# Altium integrated library TI Amplifiers and Linear Operational Amplifier Precision Amplifier Part Two.IntLib: 2300 symbols (part 50 of 81)
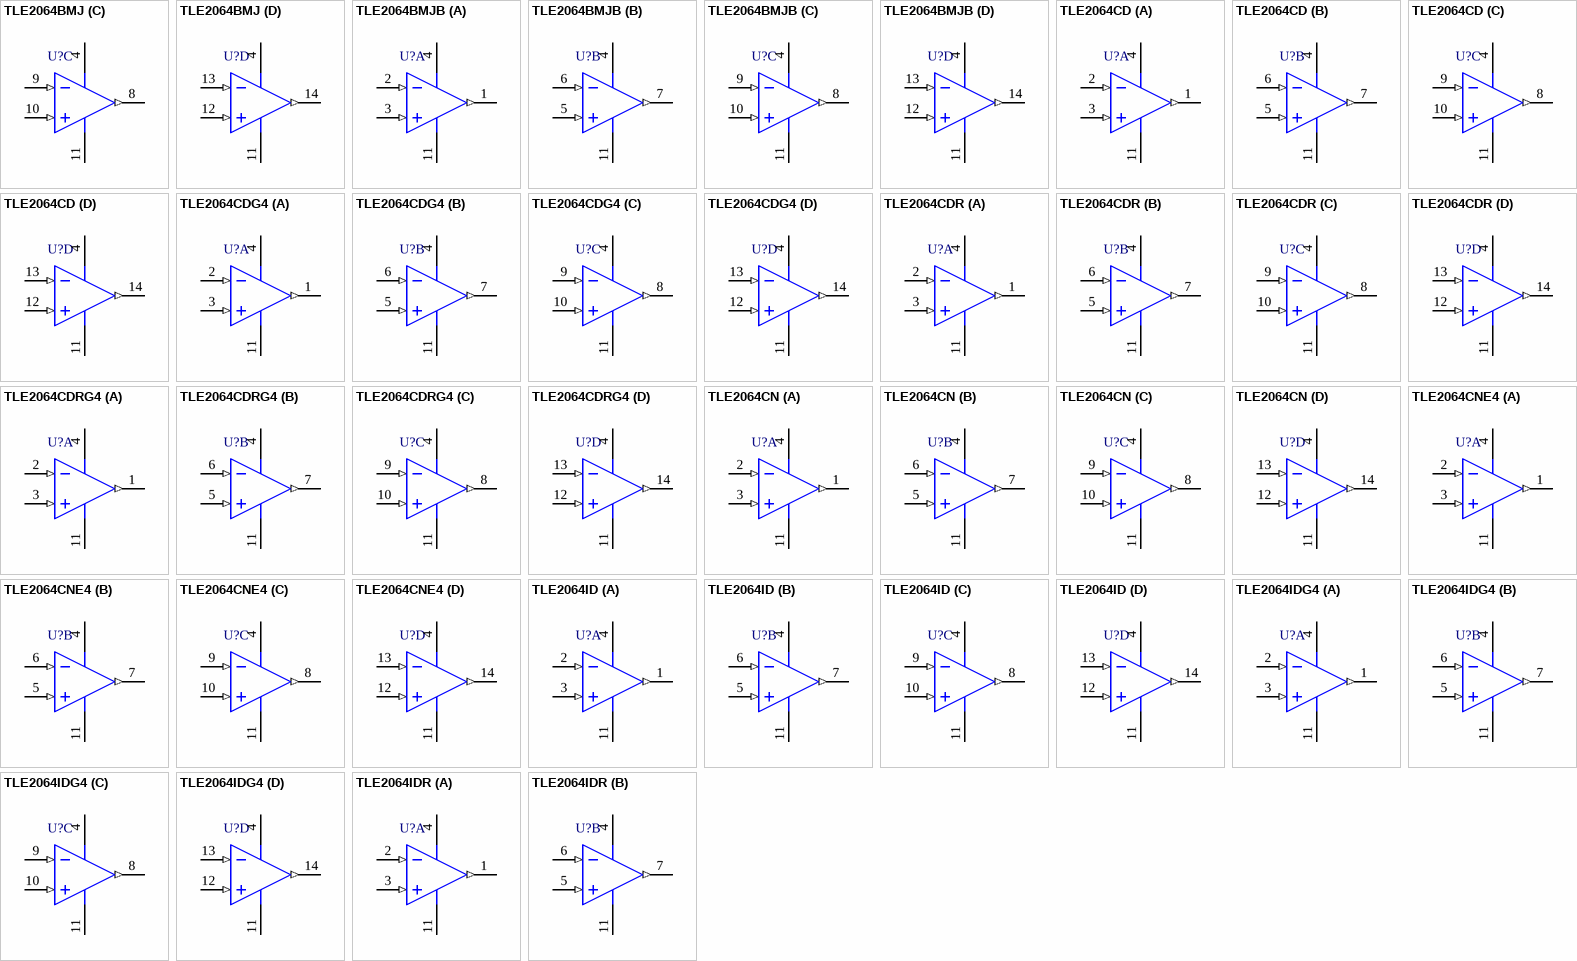
[diagram p185: symbols TLE2064BMJ to TLE2064IDR]

## TLE2064BMJB
designator U?
JFET-Input Low Power High Drive Quad Operational Amplifier, 7 to 36 V, -55 to 125 degC, 14-pin DIP (J14); Manufacturer: Texas Instruments; PartNumber: TLE2064BMJB; CMRR(Min)(dB): 65; GBW(Typ)(MHz): 1.8; IIB(Max)(pA): 30000; Iq per channel(Max)(mA): 0.325; Number of Channels: 4; Offset Drift(Typ)(uV/C): 6; Packing: TUBE; Rating: Military; Slew Rate(Typ)(V/us): 3.4; Sub Family: High Supply Voltage Amplifier (>=30V), Low Power Amp (<=500uA), Precision Amplifier; Total Supply Voltage(Max)(+5V is 5, +/-5V is 10): 36; Total Supply Voltage(Min)(+5V is 5, +/-5V is 10): 7; Vio (25C)(Max)(mV): 3.5; DatasheetVersion: SLOS193B; PackageVersion: 4040083/F, 03/2003; PackageReference: J14; PackageDescription: 14-Pin Ceramic, Glass In-Line, Row Spacing 7.62 mm, Pitch 2.54 mm; Mounting Technology: Through Hole; ComponentLink1Description: Manufacturer URL; ComponentLink1URL: http://www.ti.com/; ComponentLink2Description: Datasheet; ComponentLink2URL: http://www.ti.com/lit/ds/symlink/tle2064bm.pdf; ComponentLink3Description: Package Specification; ComponentLink3URL: http://www.ti.com/litv/pdf/mcer002d
footprint TI-J14 (DIP, 14-Leads, Body 19.94x6.92mm, Row Spacing 7.62 mm, Pitch 2.54mm)
pins on every part: 4 VCC+ (power), 11 VCC- (power)
part A pins: 1 OUT1 (out), 2 IN1- (in), 3 IN1+ (in)
part B pins: 5 IN2+ (in), 6 IN2- (in), 7 OUT2 (out)
part C pins: 8 OUT3 (out), 9 IN3- (in), 10 IN3+ (in)
part D pins: 12 IN4+ (in), 13 IN4- (in), 14 OUT4 (out)

## TLE2064CD
designator U?
Quad JFET-Input High-Output-Drive uPower Operational Amplifier, 7 to 36 V, 0 to 70 degC, 14-pin SOIC (D14), Green (RoHS & no Sb/Br); Manufacturer: Texas Instruments; PartNumber: TLE2064CD; CMRR(Min)(dB): 65; GBW(Typ)(MHz): 1.8; IIB(Max)(pA): 2000; Iq per channel(Max)(mA): 1.3; Number of Channels: 4; Offset Drift(Typ)(uV/C): 6; Packing: TUBE; Rating: Catalog; Slew Rate(Typ)(V/us): 3.4; Sub Family: High Supply Voltage Amplifier (>=30V), Low Power Amp (<=500uA), Precision Amplifier; Total Supply Voltage(Max)(+5V is 5, +/-5V is 10): 36; Total Supply Voltage(Min)(+5V is 5, +/-5V is 10): 7; DatasheetVersion: SLOS193B; PackageVersion: 4040047-5/M, 06/2011; PackageReference: D14; PackageDescription: 14-Pin Plastic Small Outline, Body 8.65 x 3.9 mm, Pitch 1.27 mm; Supplier 1: Digi-Key; Supplier Part Number 1: 296-10409-5-ND; Supplier 2: Farnell; Supplier Part Number 2: 1909800; Supplier 3: Newark; Supplier Part Number 3: 92F8608; Supplier 4: Mouser; Supplier Part Number 4: 595-TLE2064CD; Eco-Plan: Green (RoHS & no Sb/Br); Vio (25C)(Max)(mV): 7; Mounting Technology: Surface Mount; Code_JEDEC: MS-012; ComponentLink1Description: Manufacturer URL; ComponentLink1URL: http://www.ti.com/; ComponentLink2Description: Datasheet; ComponentLink2URL: http://www.ti.com/lit/ds/symlink/tle2064.pdf; ComponentLink3Description: Package Specification; ComponentLink3URL: http://www.ti.com/lit/ml/mpds177g/mpds177g.pdf
footprint TI-D14_N (SOIC, 14-Leads, Body 8.65x3.9mm, Pitch 1.27mm, IPC Medium Density)
footprint TI-D14_L (SOIC, 14-Leads, Body 8.65x3.9mm, Pitch 1.27mm, IPC High Density)
footprint TI-D14_M (SOIC, 14-Leads, Body 8.65x3.9mm, Pitch 1.27mm, IPC Low Density)
pins on every part: 4 VCC+ (power), 11 VCC- (power)
part A pins: 1 OUT1 (out), 2 IN1- (in), 3 IN1+ (in)
part B pins: 5 IN2+ (in), 6 IN2- (in), 7 OUT2 (out)
part C pins: 8 OUT3 (out), 9 IN3- (in), 10 IN3+ (in)
part D pins: 12 IN4+ (in), 13 IN4- (in), 14 OUT4 (out)

## TLE2064CDG4
designator U?
Quad JFET-Input High-Output-Drive uPower Operational Amplifier, 7 to 36 V, 0 to 70 degC, 14-pin SOIC (D14), Green (RoHS & no Sb/Br); Manufacturer: Texas Instruments; PartNumber: TLE2064CDG4; CMRR(Min)(dB): 65; GBW(Typ)(MHz): 1.8; IIB(Max)(pA): 2000; Iq per channel(Max)(mA): 1.3; Number of Channels: 4; Offset Drift(Typ)(uV/C): 6; Packing: TUBE; Rating: Catalog; Slew Rate(Typ)(V/us): 3.4; Sub Family: High Supply Voltage Amplifier (>=30V), Low Power Amp (<=500uA), Precision Amplifier; Total Supply Voltage(Max)(+5V is 5, +/-5V is 10): 36; Total Supply Voltage(Min)(+5V is 5, +/-5V is 10): 7; DatasheetVersion: SLOS193B; PackageVersion: 4040047-5/M, 06/2011; PackageReference: D14; PackageDescription: 14-Pin Plastic Small Outline, Body 8.65 x 3.9 mm, Pitch 1.27 mm; Supplier 1: Digi-Key; Supplier Part Number 1: TLE2064CDG4-ND; Supplier 2: Farnell; Supplier Part Number 2: 1234692; Supplier 3: Newark; Supplier Part Number 3: 13M3170; Supplier 4: Mouser; Supplier Part Number 4: 595-TLE2064CDG4; Eco-Plan: Green (RoHS & no Sb/Br); Vio (25C)(Max)(mV): 7; Mounting Technology: Surface Mount; Code_JEDEC: MS-012; ComponentLink1Description: Manufacturer URL; ComponentLink1URL: http://www.ti.com/; ComponentLink2Description: Datasheet; ComponentLink2URL: http://www.ti.com/lit/ds/symlink/tle2064.pdf; ComponentLink3Description: Package Specification; ComponentLink3URL: http://www.ti.com/lit/ml/mpds177g/mpds177g.pdf
footprint TI-D14_N (SOIC, 14-Leads, Body 8.65x3.9mm, Pitch 1.27mm, IPC Medium Density)
footprint TI-D14_L (SOIC, 14-Leads, Body 8.65x3.9mm, Pitch 1.27mm, IPC High Density)
footprint TI-D14_M (SOIC, 14-Leads, Body 8.65x3.9mm, Pitch 1.27mm, IPC Low Density)
pins on every part: 4 VCC+ (power), 11 VCC- (power)
part A pins: 1 OUT1 (out), 2 IN1- (in), 3 IN1+ (in)
part B pins: 5 IN2+ (in), 6 IN2- (in), 7 OUT2 (out)
part C pins: 8 OUT3 (out), 9 IN3- (in), 10 IN3+ (in)
part D pins: 12 IN4+ (in), 13 IN4- (in), 14 OUT4 (out)

## TLE2064CDR
designator U?
Quad JFET-Input High-Output-Drive uPower Operational Amplifier, 7 to 36 V, 0 to 70 degC, 14-pin SOIC (D14), Green (RoHS & no Sb/Br); Manufacturer: Texas Instruments; PartNumber: TLE2064CDR; CMRR(Min)(dB): 65; GBW(Typ)(MHz): 1.8; IIB(Max)(pA): 2000; Iq per channel(Max)(mA): 1.3; Number of Channels: 4; Offset Drift(Typ)(uV/C): 6; Packing: LARGE T&R; Rating: Catalog; Slew Rate(Typ)(V/us): 3.4; Sub Family: High Supply Voltage Amplifier (>=30V), Low Power Amp (<=500uA), Precision Amplifier; Total Supply Voltage(Max)(+5V is 5, +/-5V is 10): 36; Total Supply Voltage(Min)(+5V is 5, +/-5V is 10): 7; DatasheetVersion: SLOS193B; PackageVersion: 4040047-5/M, 06/2011; PackageReference: D14; PackageDescription: 14-Pin Plastic Small Outline, Body 8.65 x 3.9 mm, Pitch 1.27 mm; Supplier 1: Digi-Key; Supplier Part Number 1: TLE2064CDR-ND; Supplier 2: Mouser; Supplier Part Number 2: 595-TLE2064CDR; Eco-Plan: Green (RoHS & no Sb/Br); Vio (25C)(Max)(mV): 7; Mounting Technology: Surface Mount; Code_JEDEC: MS-012; ComponentLink1Description: Manufacturer URL; ComponentLink1URL: http://www.ti.com/; ComponentLink2Description: Datasheet; ComponentLink2URL: http://www.ti.com/lit/ds/symlink/tle2064.pdf; ComponentLink3Description: Package Specification; ComponentLink3URL: http://www.ti.com/lit/ml/mpds177g/mpds177g.pdf
footprint TI-D14_N (SOIC, 14-Leads, Body 8.65x3.9mm, Pitch 1.27mm, IPC Medium Density)
footprint TI-D14_L (SOIC, 14-Leads, Body 8.65x3.9mm, Pitch 1.27mm, IPC High Density)
footprint TI-D14_M (SOIC, 14-Leads, Body 8.65x3.9mm, Pitch 1.27mm, IPC Low Density)
pins on every part: 4 VCC+ (power), 11 VCC- (power)
part A pins: 1 OUT1 (out), 2 IN1- (in), 3 IN1+ (in)
part B pins: 5 IN2+ (in), 6 IN2- (in), 7 OUT2 (out)
part C pins: 8 OUT3 (out), 9 IN3- (in), 10 IN3+ (in)
part D pins: 12 IN4+ (in), 13 IN4- (in), 14 OUT4 (out)

## TLE2064CDRG4
designator U?
Quad JFET-Input High-Output-Drive uPower Operational Amplifier, 7 to 36 V, 0 to 70 degC, 14-pin SOIC (D14), Green (RoHS & no Sb/Br); Manufacturer: Texas Instruments; PartNumber: TLE2064CDRG4; CMRR(Min)(dB): 65; GBW(Typ)(MHz): 1.8; IIB(Max)(pA): 2000; Iq per channel(Max)(mA): 1.3; Number of Channels: 4; Offset Drift(Typ)(uV/C): 6; Packing: LARGE T&R; Rating: Catalog; Slew Rate(Typ)(V/us): 3.4; Sub Family: High Supply Voltage Amplifier (>=30V), Low Power Amp (<=500uA), Precision Amplifier; Total Supply Voltage(Max)(+5V is 5, +/-5V is 10): 36; Total Supply Voltage(Min)(+5V is 5, +/-5V is 10): 7; DatasheetVersion: SLOS193B; PackageVersion: 4040047-5/M, 06/2011; PackageReference: D14; PackageDescription: 14-Pin Plastic Small Outline, Body 8.65 x 3.9 mm, Pitch 1.27 mm; Supplier 1: Digi-Key; Supplier Part Number 1: TLE2064CDRG4-ND; Supplier 2: Mouser; Supplier Part Number 2: 595-TLE2064CDRG4; Eco-Plan: Green (RoHS & no Sb/Br); Vio (25C)(Max)(mV): 7; Mounting Technology: Surface Mount; Code_JEDEC: MS-012; ComponentLink1Description: Manufacturer URL; ComponentLink1URL: http://www.ti.com/; ComponentLink2Description: Datasheet; ComponentLink2URL: http://www.ti.com/lit/ds/symlink/tle2064.pdf; ComponentLink3Description: Package Specification; ComponentLink3URL: http://www.ti.com/lit/ml/mpds177g/mpds177g.pdf
footprint TI-D14_N (SOIC, 14-Leads, Body 8.65x3.9mm, Pitch 1.27mm, IPC Medium Density)
footprint TI-D14_L (SOIC, 14-Leads, Body 8.65x3.9mm, Pitch 1.27mm, IPC High Density)
footprint TI-D14_M (SOIC, 14-Leads, Body 8.65x3.9mm, Pitch 1.27mm, IPC Low Density)
pins on every part: 4 VCC+ (power), 11 VCC- (power)
part A pins: 1 OUT1 (out), 2 IN1- (in), 3 IN1+ (in)
part B pins: 5 IN2+ (in), 6 IN2- (in), 7 OUT2 (out)
part C pins: 8 OUT3 (out), 9 IN3- (in), 10 IN3+ (in)
part D pins: 12 IN4+ (in), 13 IN4- (in), 14 OUT4 (out)

## TLE2064CN
designator U?
Quad JFET-Input High-Output-Drive uPower Operational Amplifier, 7 to 36 V, 0 to 70 degC, 14-pin DIP (N14), Pb-Free (RoHS); Manufacturer: Texas Instruments; PartNumber: TLE2064CN; CMRR(Min)(dB): 65; GBW(Typ)(MHz): 1.8; IIB(Max)(pA): 2000; Iq per channel(Max)(mA): 1.3; Number of Channels: 4; Offset Drift(Typ)(uV/C): 6; Packing: TUBE; Rating: Catalog; Slew Rate(Typ)(V/us): 3.4; Sub Family: High Supply Voltage Amplifier (>=30V), Low Power Amp (<=500uA), Precision Amplifier; Total Supply Voltage(Max)(+5V is 5, +/-5V is 10): 36; Total Supply Voltage(Min)(+5V is 5, +/-5V is 10): 7; DatasheetVersion: SLOS193B; PackageVersion: 4040049/E, 12/2002; PackageReference: N14; PackageDescription: 14-Pin Plastic In-Line, Body 19.305 x 6.35 mm, Pitch 2.54 mm; Supplier 1: Digi-Key; Supplier Part Number 1: 296-10410-5-ND; Supplier 2: Farnell; Supplier Part Number 2: 2387505; Supplier 3: Newark; Supplier Part Number 3: 08F9172; Supplier 4: Mouser; Supplier Part Number 4: 595-TLE2064CN; Eco-Plan: Pb-Free (RoHS); Vio (25C)(Max)(mV): 7; Mounting Technology: Through Hole; Code_JEDEC: MS-001; ComponentLink1Description: Manufacturer URL; ComponentLink1URL: http://www.ti.com/; ComponentLink2Description: Datasheet; ComponentLink2URL: http://www.ti.com/lit/ds/symlink/tle2064.pdf; ComponentLink3Description: Package Specification; ComponentLink3URL: http://www.ti.com/lit/ml/mpdi002c/mpdi002c.pdf
footprint TI-N14 (DIP, 14-Leads, Body 19.305x6.35 mm, Pitch 2.54 mm)
pins on every part: 4 VCC+ (power), 11 VCC- (power)
part A pins: 1 OUT1 (out), 2 IN1- (in), 3 IN1+ (in)
part B pins: 5 IN2+ (in), 6 IN2- (in), 7 OUT2 (out)
part C pins: 8 OUT3 (out), 9 IN3- (in), 10 IN3+ (in)
part D pins: 12 IN4+ (in), 13 IN4- (in), 14 OUT4 (out)

## TLE2064CNE4
designator U?
Quad JFET-Input High-Output-Drive uPower Operational Amplifier, 7 to 36 V, 0 to 70 degC, 14-pin DIP (N14), Pb-Free (RoHS); Manufacturer: Texas Instruments; PartNumber: TLE2064CNE4; CMRR(Min)(dB): 65; GBW(Typ)(MHz): 1.8; IIB(Max)(pA): 2000; Iq per channel(Max)(mA): 1.3; Number of Channels: 4; Offset Drift(Typ)(uV/C): 6; Packing: TUBE; Rating: Catalog; Slew Rate(Typ)(V/us): 3.4; Sub Family: High Supply Voltage Amplifier (>=30V), Low Power Amp (<=500uA), Precision Amplifier; Total Supply Voltage(Max)(+5V is 5, +/-5V is 10): 36; Total Supply Voltage(Min)(+5V is 5, +/-5V is 10): 7; DatasheetVersion: SLOS193B; PackageVersion: 4040049/E, 12/2002; PackageReference: N14; PackageDescription: 14-Pin Plastic In-Line, Body 19.305 x 6.35 mm, Pitch 2.54 mm; Supplier 1: Digi-Key; Supplier Part Number 1: TLE2064CNE4-ND; Supplier 2: Farnell; Supplier Part Number 2: 1234712; Supplier 3: Newark; Supplier Part Number 3: 13M3171; Supplier 4: Mouser; Supplier Part Number 4: 595-TLE2064CNE4; Eco-Plan: Pb-Free (RoHS); Vio (25C)(Max)(mV): 7; Mounting Technology: Through Hole; Code_JEDEC: MS-001; ComponentLink1Description: Manufacturer URL; ComponentLink1URL: http://www.ti.com/; ComponentLink2Description: Datasheet; ComponentLink2URL: http://www.ti.com/lit/ds/symlink/tle2064.pdf; ComponentLink3Description: Package Specification; ComponentLink3URL: http://www.ti.com/lit/ml/mpdi002c/mpdi002c.pdf
footprint TI-N14 (DIP, 14-Leads, Body 19.305x6.35 mm, Pitch 2.54 mm)
pins on every part: 4 VCC+ (power), 11 VCC- (power)
part A pins: 1 OUT1 (out), 2 IN1- (in), 3 IN1+ (in)
part B pins: 5 IN2+ (in), 6 IN2- (in), 7 OUT2 (out)
part C pins: 8 OUT3 (out), 9 IN3- (in), 10 IN3+ (in)
part D pins: 12 IN4+ (in), 13 IN4- (in), 14 OUT4 (out)

## TLE2064ID
designator U?
Quad JFET-Input High-Output-Drive uPower Operational Amplifier, 7 to 36 V, -40 to 85 degC, 14-pin SOIC (D14), Green (RoHS & no Sb/Br); Manufacturer: Texas Instruments; PartNumber: TLE2064ID; CMRR(Min)(dB): 65; GBW(Typ)(MHz): 1.8; IIB(Max)(pA): 4000; Iq per channel(Max)(mA): 1.3; Number of Channels: 4; Offset Drift(Typ)(uV/C): 6; Packing: TUBE; Rating: Catalog; Slew Rate(Typ)(V/us): 3.4; Sub Family: High Supply Voltage Amplifier (>=30V), Low Power Amp (<=500uA), Precision Amplifier; Total Supply Voltage(Max)(+5V is 5, +/-5V is 10): 36; Total Supply Voltage(Min)(+5V is 5, +/-5V is 10): 7; DatasheetVersion: SLOS193B; PackageVersion: 4040047-5/M, 06/2011; PackageReference: D14; PackageDescription: 14-Pin Plastic Small Outline, Body 8.65 x 3.9 mm, Pitch 1.27 mm; Supplier 1: Digi-Key; Supplier Part Number 1: 296-10411-5-ND; Supplier 2: Farnell; Supplier Part Number 2: 1105910; Supplier 3: Newark; Supplier Part Number 3: 67K1268; Supplier 4: Mouser; Supplier Part Number 4: 595-TLE2064ID; Eco-Plan: Green (RoHS & no Sb/Br); Vio (25C)(Max)(mV): 7; Mounting Technology: Surface Mount; Code_JEDEC: MS-012; ComponentLink1Description: Manufacturer URL; ComponentLink1URL: http://www.ti.com/; ComponentLink2Description: Datasheet; ComponentLink2URL: http://www.ti.com/lit/ds/symlink/tle2064.pdf; ComponentLink3Description: Package Specification; ComponentLink3URL: http://www.ti.com/lit/ml/mpds177g/mpds177g.pdf
footprint TI-D14_N (SOIC, 14-Leads, Body 8.65x3.9mm, Pitch 1.27mm, IPC Medium Density)
footprint TI-D14_L (SOIC, 14-Leads, Body 8.65x3.9mm, Pitch 1.27mm, IPC High Density)
footprint TI-D14_M (SOIC, 14-Leads, Body 8.65x3.9mm, Pitch 1.27mm, IPC Low Density)
pins on every part: 4 VCC+ (power), 11 VCC- (power)
part A pins: 1 OUT1 (out), 2 IN1- (in), 3 IN1+ (in)
part B pins: 5 IN2+ (in), 6 IN2- (in), 7 OUT2 (out)
part C pins: 8 OUT3 (out), 9 IN3- (in), 10 IN3+ (in)
part D pins: 12 IN4+ (in), 13 IN4- (in), 14 OUT4 (out)

## TLE2064IDG4
designator U?
Quad JFET-Input High-Output-Drive uPower Operational Amplifier, 7 to 36 V, -40 to 85 degC, 14-pin SOIC (D14), Green (RoHS & no Sb/Br); Manufacturer: Texas Instruments; PartNumber: TLE2064IDG4; CMRR(Min)(dB): 65; GBW(Typ)(MHz): 1.8; IIB(Max)(pA): 4000; Iq per channel(Max)(mA): 1.3; Number of Channels: 4; Offset Drift(Typ)(uV/C): 6; Packing: TUBE; Rating: Catalog; Slew Rate(Typ)(V/us): 3.4; Sub Family: High Supply Voltage Amplifier (>=30V), Low Power Amp (<=500uA), Precision Amplifier; Total Supply Voltage(Max)(+5V is 5, +/-5V is 10): 36; Total Supply Voltage(Min)(+5V is 5, +/-5V is 10): 7; DatasheetVersion: SLOS193B; PackageVersion: 4040047-5/M, 06/2011; PackageReference: D14; PackageDescription: 14-Pin Plastic Small Outline, Body 8.65 x 3.9 mm, Pitch 1.27 mm; Supplier 1: Digi-Key; Supplier Part Number 1: TLE2064IDG4-ND; Supplier 2: Mouser; Supplier Part Number 2: 595-TLE2064IDG4; Eco-Plan: Green (RoHS & no Sb/Br); Vio (25C)(Max)(mV): 7; Mounting Technology: Surface Mount; Code_JEDEC: MS-012; ComponentLink1Description: Manufacturer URL; ComponentLink1URL: http://www.ti.com/; ComponentLink2Description: Datasheet; ComponentLink2URL: http://www.ti.com/lit/ds/symlink/tle2064.pdf; ComponentLink3Description: Package Specification; ComponentLink3URL: http://www.ti.com/lit/ml/mpds177g/mpds177g.pdf
footprint TI-D14_N (SOIC, 14-Leads, Body 8.65x3.9mm, Pitch 1.27mm, IPC Medium Density)
footprint TI-D14_L (SOIC, 14-Leads, Body 8.65x3.9mm, Pitch 1.27mm, IPC High Density)
footprint TI-D14_M (SOIC, 14-Leads, Body 8.65x3.9mm, Pitch 1.27mm, IPC Low Density)
pins on every part: 4 VCC+ (power), 11 VCC- (power)
part A pins: 1 OUT1 (out), 2 IN1- (in), 3 IN1+ (in)
part B pins: 5 IN2+ (in), 6 IN2- (in), 7 OUT2 (out)
part C pins: 8 OUT3 (out), 9 IN3- (in), 10 IN3+ (in)
part D pins: 12 IN4+ (in), 13 IN4- (in), 14 OUT4 (out)

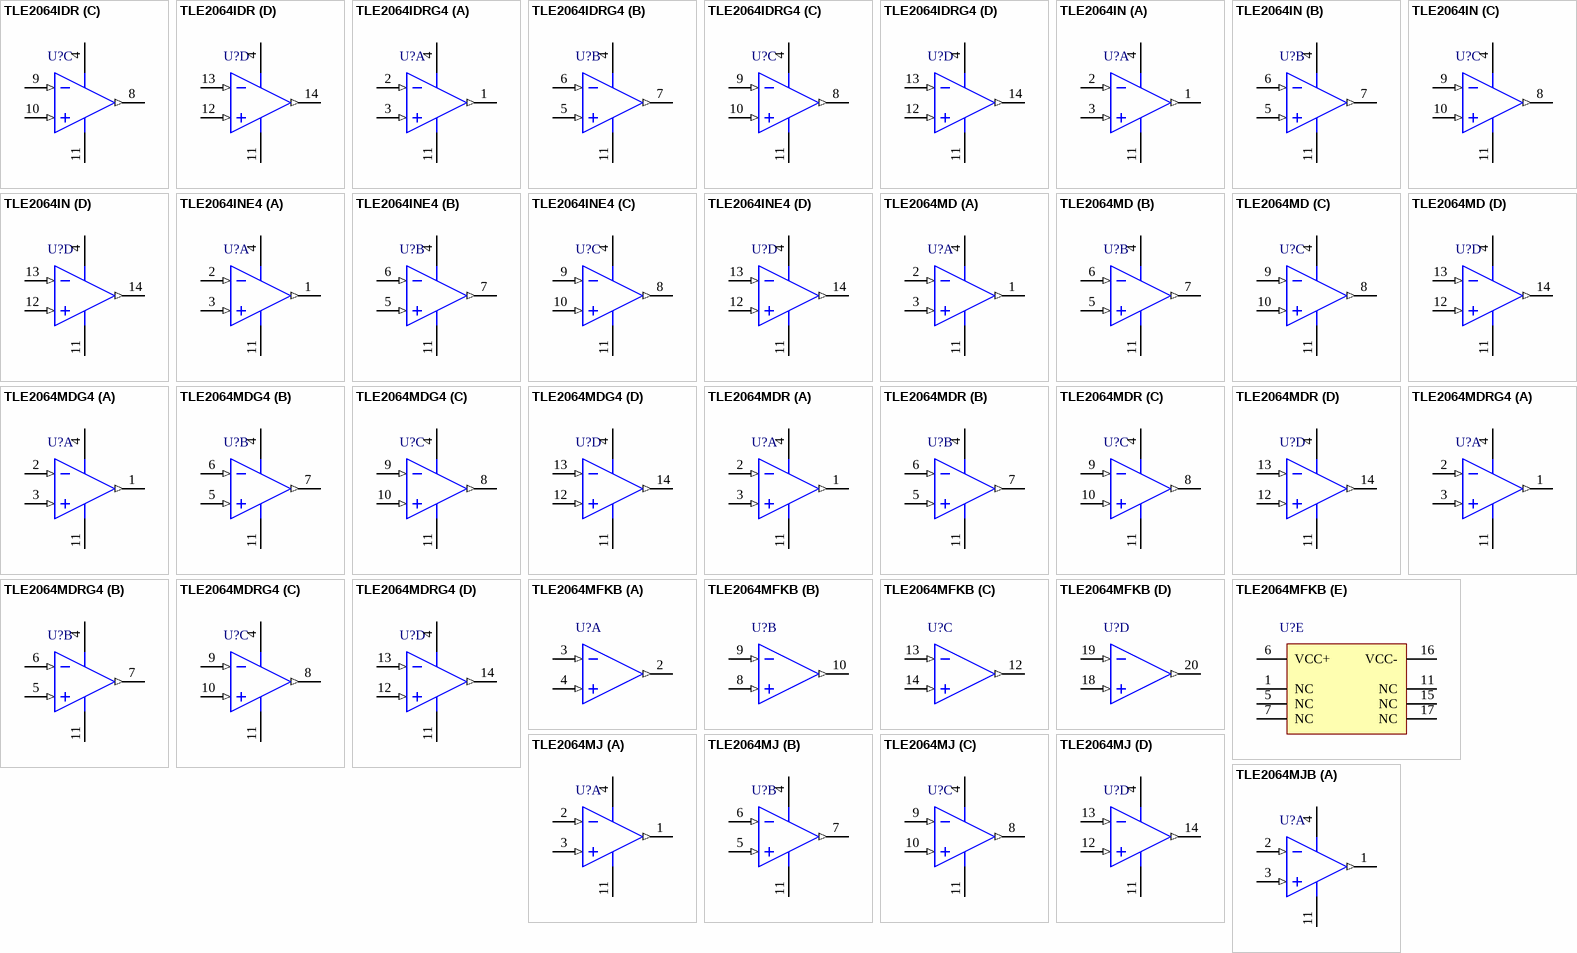
[diagram p85: symbols TLE2064IDR to TLE2064MJB]

## TLE2064IDR
designator U?
Quad JFET-Input High-Output-Drive uPower Operational Amplifier, 7 to 36 V, -40 to 85 degC, 14-pin SOIC (D14), Green (RoHS & no Sb/Br); Manufacturer: Texas Instruments; PartNumber: TLE2064IDR; CMRR(Min)(dB): 65; GBW(Typ)(MHz): 1.8; IIB(Max)(pA): 4000; Iq per channel(Max)(mA): 1.3; Number of Channels: 4; Offset Drift(Typ)(uV/C): 6; Packing: LARGE T&R; Rating: Catalog; Slew Rate(Typ)(V/us): 3.4; Sub Family: High Supply Voltage Amplifier (>=30V), Low Power Amp (<=500uA), Precision Amplifier; Total Supply Voltage(Max)(+5V is 5, +/-5V is 10): 36; Total Supply Voltage(Min)(+5V is 5, +/-5V is 10): 7; DatasheetVersion: SLOS193B; PackageVersion: 4040047-5/M, 06/2011; PackageReference: D14; PackageDescription: 14-Pin Plastic Small Outline, Body 8.65 x 3.9 mm, Pitch 1.27 mm; Supplier 1: Digi-Key; Supplier Part Number 1: TLE2064IDR-ND; Supplier 2: Newark; Supplier Part Number 2: 76C7636; Supplier 3: Mouser; Supplier Part Number 3: 595-TLE2064IDR; Eco-Plan: Green (RoHS & no Sb/Br); Vio (25C)(Max)(mV): 7; Mounting Technology: Surface Mount; Code_JEDEC: MS-012; ComponentLink1Description: Manufacturer URL; ComponentLink1URL: http://www.ti.com/; ComponentLink2Description: Datasheet; ComponentLink2URL: http://www.ti.com/lit/ds/symlink/tle2064.pdf; ComponentLink3Description: Package Specification; ComponentLink3URL: http://www.ti.com/lit/ml/mpds177g/mpds177g.pdf
footprint TI-D14_N (SOIC, 14-Leads, Body 8.65x3.9mm, Pitch 1.27mm, IPC Medium Density)
footprint TI-D14_L (SOIC, 14-Leads, Body 8.65x3.9mm, Pitch 1.27mm, IPC High Density)
footprint TI-D14_M (SOIC, 14-Leads, Body 8.65x3.9mm, Pitch 1.27mm, IPC Low Density)
pins on every part: 4 VCC+ (power), 11 VCC- (power)
part A pins: 1 OUT1 (out), 2 IN1- (in), 3 IN1+ (in)
part B pins: 5 IN2+ (in), 6 IN2- (in), 7 OUT2 (out)
part C pins: 8 OUT3 (out), 9 IN3- (in), 10 IN3+ (in)
part D pins: 12 IN4+ (in), 13 IN4- (in), 14 OUT4 (out)

## TLE2064IDRG4
designator U?
Quad JFET-Input High-Output-Drive uPower Operational Amplifier, 7 to 36 V, -40 to 85 degC, 14-pin SOIC (D14), Green (RoHS & no Sb/Br); Manufacturer: Texas Instruments; PartNumber: TLE2064IDRG4; CMRR(Min)(dB): 65; GBW(Typ)(MHz): 1.8; IIB(Max)(pA): 4000; Iq per channel(Max)(mA): 1.3; Number of Channels: 4; Offset Drift(Typ)(uV/C): 6; Packing: LARGE T&R; Rating: Catalog; Slew Rate(Typ)(V/us): 3.4; Sub Family: High Supply Voltage Amplifier (>=30V), Low Power Amp (<=500uA), Precision Amplifier; Total Supply Voltage(Max)(+5V is 5, +/-5V is 10): 36; Total Supply Voltage(Min)(+5V is 5, +/-5V is 10): 7; DatasheetVersion: SLOS193B; PackageVersion: 4040047-5/M, 06/2011; PackageReference: D14; PackageDescription: 14-Pin Plastic Small Outline, Body 8.65 x 3.9 mm, Pitch 1.27 mm; Supplier 1: Digi-Key; Supplier Part Number 1: TLE2064IDRG4-ND; Supplier 2: Mouser; Supplier Part Number 2: 595-TLE2064IDRG4; Eco-Plan: Green (RoHS & no Sb/Br); Vio (25C)(Max)(mV): 7; Mounting Technology: Surface Mount; Code_JEDEC: MS-012; ComponentLink1Description: Manufacturer URL; ComponentLink1URL: http://www.ti.com/; ComponentLink2Description: Datasheet; ComponentLink2URL: http://www.ti.com/lit/ds/symlink/tle2064.pdf; ComponentLink3Description: Package Specification; ComponentLink3URL: http://www.ti.com/lit/ml/mpds177g/mpds177g.pdf
footprint TI-D14_N (SOIC, 14-Leads, Body 8.65x3.9mm, Pitch 1.27mm, IPC Medium Density)
footprint TI-D14_L (SOIC, 14-Leads, Body 8.65x3.9mm, Pitch 1.27mm, IPC High Density)
footprint TI-D14_M (SOIC, 14-Leads, Body 8.65x3.9mm, Pitch 1.27mm, IPC Low Density)
pins on every part: 4 VCC+ (power), 11 VCC- (power)
part A pins: 1 OUT1 (out), 2 IN1- (in), 3 IN1+ (in)
part B pins: 5 IN2+ (in), 6 IN2- (in), 7 OUT2 (out)
part C pins: 8 OUT3 (out), 9 IN3- (in), 10 IN3+ (in)
part D pins: 12 IN4+ (in), 13 IN4- (in), 14 OUT4 (out)

## TLE2064IN
designator U?
Quad JFET-Input High-Output-Drive uPower Operational Amplifier, 7 to 36 V, -40 to 85 degC, 14-pin DIP (N14), Pb-Free (RoHS); Manufacturer: Texas Instruments; PartNumber: TLE2064IN; CMRR(Min)(dB): 65; GBW(Typ)(MHz): 1.8; IIB(Max)(pA): 4000; Iq per channel(Max)(mA): 1.3; Number of Channels: 4; Offset Drift(Typ)(uV/C): 6; Packing: TUBE; Rating: Catalog; Slew Rate(Typ)(V/us): 3.4; Sub Family: High Supply Voltage Amplifier (>=30V), Low Power Amp (<=500uA), Precision Amplifier; Total Supply Voltage(Max)(+5V is 5, +/-5V is 10): 36; Total Supply Voltage(Min)(+5V is 5, +/-5V is 10): 7; DatasheetVersion: SLOS193B; PackageVersion: 4040049/E, 12/2002; PackageReference: N14; PackageDescription: 14-Pin Plastic In-Line, Body 19.305 x 6.35 mm, Pitch 2.54 mm; Supplier 1: Digi-Key; Supplier Part Number 1: 296-10412-5-ND; Supplier 2: Farnell; Supplier Part Number 2: 1102949; Supplier 3: Newark; Supplier Part Number 3: 05M6546; Supplier 4: Newark; Supplier Part Number 4: 99F2992; Supplier 5: Mouser; Supplier Part Number 5: 595-TLE2064IN; Eco-Plan: Pb-Free (RoHS); Vio (25C)(Max)(mV): 7; Mounting Technology: Through Hole; Code_JEDEC: MS-001; ComponentLink1Description: Manufacturer URL; ComponentLink1URL: http://www.ti.com/; ComponentLink2Description: Datasheet; ComponentLink2URL: http://www.ti.com/lit/ds/symlink/tle2064.pdf; ComponentLink3Description: Package Specification; ComponentLink3URL: http://www.ti.com/lit/ml/mpdi002c/mpdi002c.pdf
footprint TI-N14 (DIP, 14-Leads, Body 19.305x6.35 mm, Pitch 2.54 mm)
pins on every part: 4 VCC+ (power), 11 VCC- (power)
part A pins: 1 OUT1 (out), 2 IN1- (in), 3 IN1+ (in)
part B pins: 5 IN2+ (in), 6 IN2- (in), 7 OUT2 (out)
part C pins: 8 OUT3 (out), 9 IN3- (in), 10 IN3+ (in)
part D pins: 12 IN4+ (in), 13 IN4- (in), 14 OUT4 (out)

## TLE2064INE4
designator U?
Quad JFET-Input High-Output-Drive uPower Operational Amplifier, 7 to 36 V, -40 to 85 degC, 14-pin DIP (N14), Pb-Free (RoHS); Manufacturer: Texas Instruments; PartNumber: TLE2064INE4; CMRR(Min)(dB): 65; GBW(Typ)(MHz): 1.8; IIB(Max)(pA): 4000; Iq per channel(Max)(mA): 1.3; Number of Channels: 4; Offset Drift(Typ)(uV/C): 6; Packing: TUBE; Rating: Catalog; Slew Rate(Typ)(V/us): 3.4; Sub Family: High Supply Voltage Amplifier (>=30V), Low Power Amp (<=500uA), Precision Amplifier; Total Supply Voltage(Max)(+5V is 5, +/-5V is 10): 36; Total Supply Voltage(Min)(+5V is 5, +/-5V is 10): 7; DatasheetVersion: SLOS193B; PackageVersion: 4040049/E, 12/2002; PackageReference: N14; PackageDescription: 14-Pin Plastic In-Line, Body 19.305 x 6.35 mm, Pitch 2.54 mm; Supplier 1: Digi-Key; Supplier Part Number 1: TLE2064INE4-ND; Supplier 2: Newark; Supplier Part Number 2: 24K5390; Supplier 3: Mouser; Supplier Part Number 3: 595-TLE2064INE4; Eco-Plan: Pb-Free (RoHS); Vio (25C)(Max)(mV): 7; Mounting Technology: Through Hole; Code_JEDEC: MS-001; ComponentLink1Description: Manufacturer URL; ComponentLink1URL: http://www.ti.com/; ComponentLink2Description: Datasheet; ComponentLink2URL: http://www.ti.com/lit/ds/symlink/tle2064.pdf; ComponentLink3Description: Package Specification; ComponentLink3URL: http://www.ti.com/lit/ml/mpdi002c/mpdi002c.pdf
footprint TI-N14 (DIP, 14-Leads, Body 19.305x6.35 mm, Pitch 2.54 mm)
pins on every part: 4 VCC+ (power), 11 VCC- (power)
part A pins: 1 OUT1 (out), 2 IN1- (in), 3 IN1+ (in)
part B pins: 5 IN2+ (in), 6 IN2- (in), 7 OUT2 (out)
part C pins: 8 OUT3 (out), 9 IN3- (in), 10 IN3+ (in)
part D pins: 12 IN4+ (in), 13 IN4- (in), 14 OUT4 (out)

## TLE2064MD
designator U?
JFET-Input Low Power High Drive Quad Operational Amplifier, 7 to 36 V, -55 to 125 degC, 14-pin SOIC (D14), Green (RoHS & no Sb/Br); Manufacturer: Texas Instruments; PartNumber: TLE2064MD; CMRR(Min)(dB): 65; GBW(Typ)(MHz): 1.8; IIB(Max)(pA): 30000; Iq per channel(Max)(mA): 0.325; Number of Channels: 4; Offset Drift(Typ)(uV/C): 6; Packing: SMALL T&R; Rating: Military; Slew Rate(Typ)(V/us): 3.4; Sub Family: High Supply Voltage Amplifier (>=30V), Low Power Amp (<=500uA), Precision Amplifier; Total Supply Voltage(Max)(+5V is 5, +/-5V is 10): 36; Total Supply Voltage(Min)(+5V is 5, +/-5V is 10): 7; DatasheetVersion: SLOS193B; PackageVersion: 4040047-5/M, 06/2011; PackageReference: D14; PackageDescription: 14-Pin Plastic Small Outline, Body 8.65 x 3.9 mm, Pitch 1.27 mm; Supplier 1: Digi-Key; Supplier Part Number 1: 296-10413-5-ND; Supplier 2: Newark; Supplier Part Number 2: 76C7637; Supplier 3: Mouser; Supplier Part Number 3: 595-TLE2064MD; Eco-Plan: Green (RoHS & no Sb/Br); Vio (25C)(Max)(mV): 7; Mounting Technology: Surface Mount; Code_JEDEC: MS-012; ComponentLink1Description: Manufacturer URL; ComponentLink1URL: http://www.ti.com/; ComponentLink2Description: Datasheet; ComponentLink2URL: http://www.ti.com/lit/ds/symlink/tle2064m.pdf; ComponentLink3Description: Package Specification; ComponentLink3URL: http://www.ti.com/lit/ml/mpds177g/mpds177g.pdf
footprint TI-D14_N (SOIC, 14-Leads, Body 8.65x3.9mm, Pitch 1.27mm, IPC Medium Density)
footprint TI-D14_L (SOIC, 14-Leads, Body 8.65x3.9mm, Pitch 1.27mm, IPC High Density)
footprint TI-D14_M (SOIC, 14-Leads, Body 8.65x3.9mm, Pitch 1.27mm, IPC Low Density)
pins on every part: 4 VCC+ (power), 11 VCC- (power)
part A pins: 1 OUT1 (out), 2 IN1- (in), 3 IN1+ (in)
part B pins: 5 IN2+ (in), 6 IN2- (in), 7 OUT2 (out)
part C pins: 8 OUT3 (out), 9 IN3- (in), 10 IN3+ (in)
part D pins: 12 IN4+ (in), 13 IN4- (in), 14 OUT4 (out)

## TLE2064MDG4
designator U?
JFET-Input Low Power High Drive Quad Operational Amplifier, 7 to 36 V, -55 to 125 degC, 14-pin SOIC (D14), Green (RoHS & no Sb/Br); Manufacturer: Texas Instruments; PartNumber: TLE2064MDG4; CMRR(Min)(dB): 65; GBW(Typ)(MHz): 1.8; IIB(Max)(pA): 30000; Iq per channel(Max)(mA): 0.325; Number of Channels: 4; Offset Drift(Typ)(uV/C): 6; Packing: SMALL T&R; Rating: Military; Slew Rate(Typ)(V/us): 3.4; Sub Family: High Supply Voltage Amplifier (>=30V), Low Power Amp (<=500uA), Precision Amplifier; Total Supply Voltage(Max)(+5V is 5, +/-5V is 10): 36; Total Supply Voltage(Min)(+5V is 5, +/-5V is 10): 7; DatasheetVersion: SLOS193B; PackageVersion: 4040047-5/M, 06/2011; PackageReference: D14; PackageDescription: 14-Pin Plastic Small Outline, Body 8.65 x 3.9 mm, Pitch 1.27 mm; Supplier 1: Digi-Key; Supplier Part Number 1: TLE2064MDG4-ND; Supplier 2: Mouser; Supplier Part Number 2: 595-TLE2064MDG4; Eco-Plan: Green (RoHS & no Sb/Br); Vio (25C)(Max)(mV): 7; Mounting Technology: Surface Mount; Code_JEDEC: MS-012; ComponentLink1Description: Manufacturer URL; ComponentLink1URL: http://www.ti.com/; ComponentLink2Description: Datasheet; ComponentLink2URL: http://www.ti.com/lit/ds/symlink/tle2064m.pdf; ComponentLink3Description: Package Specification; ComponentLink3URL: http://www.ti.com/lit/ml/mpds177g/mpds177g.pdf
footprint TI-D14_N (SOIC, 14-Leads, Body 8.65x3.9mm, Pitch 1.27mm, IPC Medium Density)
footprint TI-D14_L (SOIC, 14-Leads, Body 8.65x3.9mm, Pitch 1.27mm, IPC High Density)
footprint TI-D14_M (SOIC, 14-Leads, Body 8.65x3.9mm, Pitch 1.27mm, IPC Low Density)
pins on every part: 4 VCC+ (power), 11 VCC- (power)
part A pins: 1 OUT1 (out), 2 IN1- (in), 3 IN1+ (in)
part B pins: 5 IN2+ (in), 6 IN2- (in), 7 OUT2 (out)
part C pins: 8 OUT3 (out), 9 IN3- (in), 10 IN3+ (in)
part D pins: 12 IN4+ (in), 13 IN4- (in), 14 OUT4 (out)

## TLE2064MDR
designator U?
JFET-Input Low Power High Drive Quad Operational Amplifier, 7 to 36 V, -55 to 125 degC, 14-pin SOIC (D14), Green (RoHS & no Sb/Br); Manufacturer: Texas Instruments; PartNumber: TLE2064MDR; CMRR(Min)(dB): 65; GBW(Typ)(MHz): 1.8; IIB(Max)(pA): 30000; Iq per channel(Max)(mA): 0.325; Number of Channels: 4; Offset Drift(Typ)(uV/C): 6; Packing: LARGE T&R; Rating: Military; Slew Rate(Typ)(V/us): 3.4; Sub Family: High Supply Voltage Amplifier (>=30V), Low Power Amp (<=500uA), Precision Amplifier; Total Supply Voltage(Max)(+5V is 5, +/-5V is 10): 36; Total Supply Voltage(Min)(+5V is 5, +/-5V is 10): 7; DatasheetVersion: SLOS193B; PackageVersion: 4040047-5/M, 06/2011; PackageReference: D14; PackageDescription: 14-Pin Plastic Small Outline, Body 8.65 x 3.9 mm, Pitch 1.27 mm; Supplier 1: Digi-Key; Supplier Part Number 1: TLE2064MDR-ND; Supplier 2: Mouser; Supplier Part Number 2: 595-TLE2064MDR; Eco-Plan: Green (RoHS & no Sb/Br); Vio (25C)(Max)(mV): 7; Mounting Technology: Surface Mount; Code_JEDEC: MS-012; ComponentLink1Description: Manufacturer URL; ComponentLink1URL: http://www.ti.com/; ComponentLink2Description: Datasheet; ComponentLink2URL: http://www.ti.com/lit/ds/symlink/tle2064m.pdf; ComponentLink3Description: Package Specification; ComponentLink3URL: http://www.ti.com/lit/ml/mpds177g/mpds177g.pdf
footprint TI-D14_N (SOIC, 14-Leads, Body 8.65x3.9mm, Pitch 1.27mm, IPC Medium Density)
footprint TI-D14_L (SOIC, 14-Leads, Body 8.65x3.9mm, Pitch 1.27mm, IPC High Density)
footprint TI-D14_M (SOIC, 14-Leads, Body 8.65x3.9mm, Pitch 1.27mm, IPC Low Density)
pins on every part: 4 VCC+ (power), 11 VCC- (power)
part A pins: 1 OUT1 (out), 2 IN1- (in), 3 IN1+ (in)
part B pins: 5 IN2+ (in), 6 IN2- (in), 7 OUT2 (out)
part C pins: 8 OUT3 (out), 9 IN3- (in), 10 IN3+ (in)
part D pins: 12 IN4+ (in), 13 IN4- (in), 14 OUT4 (out)

## TLE2064MDRG4
designator U?
JFET-Input Low Power High Drive Quad Operational Amplifier, 7 to 36 V, -55 to 125 degC, 14-pin SOIC (D14), Green (RoHS & no Sb/Br); Manufacturer: Texas Instruments; PartNumber: TLE2064MDRG4; CMRR(Min)(dB): 65; GBW(Typ)(MHz): 1.8; IIB(Max)(pA): 30000; Iq per channel(Max)(mA): 0.325; Number of Channels: 4; Offset Drift(Typ)(uV/C): 6; Packing: LARGE T&R; Rating: Military; Slew Rate(Typ)(V/us): 3.4; Sub Family: High Supply Voltage Amplifier (>=30V), Low Power Amp (<=500uA), Precision Amplifier; Total Supply Voltage(Max)(+5V is 5, +/-5V is 10): 36; Total Supply Voltage(Min)(+5V is 5, +/-5V is 10): 7; DatasheetVersion: SLOS193B; PackageVersion: 4040047-5/M, 06/2011; PackageReference: D14; PackageDescription: 14-Pin Plastic Small Outline, Body 8.65 x 3.9 mm, Pitch 1.27 mm; Supplier 1: Digi-Key; Supplier Part Number 1: TLE2064MDRG4-ND; Supplier 2: Newark; Supplier Part Number 2: 50M9031; Supplier 3: Mouser; Supplier Part Number 3: 595-TLE2064MDRG4; Eco-Plan: Green (RoHS & no Sb/Br); Vio (25C)(Max)(mV): 7; Mounting Technology: Surface Mount; Code_JEDEC: MS-012; ComponentLink1Description: Manufacturer URL; ComponentLink1URL: http://www.ti.com/; ComponentLink2Description: Datasheet; ComponentLink2URL: http://www.ti.com/lit/ds/symlink/tle2064m.pdf; ComponentLink3Description: Package Specification; ComponentLink3URL: http://www.ti.com/lit/ml/mpds177g/mpds177g.pdf
footprint TI-D14_N (SOIC, 14-Leads, Body 8.65x3.9mm, Pitch 1.27mm, IPC Medium Density)
footprint TI-D14_L (SOIC, 14-Leads, Body 8.65x3.9mm, Pitch 1.27mm, IPC High Density)
footprint TI-D14_M (SOIC, 14-Leads, Body 8.65x3.9mm, Pitch 1.27mm, IPC Low Density)
pins on every part: 4 VCC+ (power), 11 VCC- (power)
part A pins: 1 OUT1 (out), 2 IN1- (in), 3 IN1+ (in)
part B pins: 5 IN2+ (in), 6 IN2- (in), 7 OUT2 (out)
part C pins: 8 OUT3 (out), 9 IN3- (in), 10 IN3+ (in)
part D pins: 12 IN4+ (in), 13 IN4- (in), 14 OUT4 (out)

## TLE2064MFKB
designator U?
JFET-Input Low Power High Drive Quad Operational Amplifier, 7 to 36 V, -55 to 125 degC, 20-pin LCC (FK20); Manufacturer: Texas Instruments; PartNumber: TLE2064MFKB; CMRR(Min)(dB): 65; GBW(Typ)(MHz): 1.8; IIB(Max)(pA): 30000; Iq per channel(Max)(mA): 0.325; Number of Channels: 4; Offset Drift(Typ)(uV/C): 6; Packing: TUBE; Rating: Military; Slew Rate(Typ)(V/us): 3.4; Sub Family: High Supply Voltage Amplifier (>=30V), Low Power Amp (<=500uA), Precision Amplifier; Total Supply Voltage(Max)(+5V is 5, +/-5V is 10): 36; Total Supply Voltage(Min)(+5V is 5, +/-5V is 10): 7; DatasheetVersion: SLOS193B; PackageVersion: 4040140/D, 01/2011; PackageReference: FK20; PackageDescription: 20-Pin Ceramic, Metal Chip Carrier, Body 8.89 x 8.89 mm, Pitch 1.27 mm; Vio (25C)(Max)(mV): 7; Mounting Technology: Surface Mount; Code_JEDEC: MS-004; ComponentLink1Description: Manufacturer URL; ComponentLink1URL: http://www.ti.com/; ComponentLink2Description: Datasheet; ComponentLink2URL: http://www.ti.com/lit/ds/symlink/tle2064m.pdf; ComponentLink3Description: Package Specification; ComponentLink3URL: http://www.ti.com/litv/pdf/mlcc006d
footprint TI-FK20_N (Leadless Chip Carrier, 20-Leads, Body 8.9x8.9mm, Pitch 1.27mm, IPC Medium Density)
footprint TI-FK20_L (Leadless Chip Carrier, 20-Leads, Body 8.9x8.9mm, Pitch 1.27mm, IPC High Density)
footprint TI-FK20_M (Leadless Chip Carrier, 20-Leads, Body 8.9x8.9mm, Pitch 1.27mm, IPC Low Density)
part A pins: 2 OUT1 (out), 3 IN1- (in), 4 IN1+ (in)
part B pins: 8 IN2+ (in), 9 IN2- (in), 10 OUT2 (out)
part C pins: 12 OUT3 (out), 13 IN3- (in), 14 IN3+ (in)
part D pins: 18 IN4+ (in), 19 IN4- (in), 20 OUT4 (out)
part E pins: 1 NC, 5 NC, 6 VCC+ (power), 7 NC, 11 NC, 15 NC, 16 VCC- (power), 17 NC

## TLE2064MJ
designator U?
JFET-Input Low Power High Drive Quad Operational Amplifier, 7 to 36 V, -55 to 125 degC, 14-pin DIP (J14); Manufacturer: Texas Instruments; PartNumber: TLE2064MJ; CMRR(Min)(dB): 65; GBW(Typ)(MHz): 1.8; IIB(Max)(pA): 30000; Iq per channel(Max)(mA): 0.325; Number of Channels: 4; Offset Drift(Typ)(uV/C): 6; Packing: TUBE; Rating: Military; Slew Rate(Typ)(V/us): 3.4; Sub Family: High Supply Voltage Amplifier (>=30V), Low Power Amp (<=500uA), Precision Amplifier; Total Supply Voltage(Max)(+5V is 5, +/-5V is 10): 36; Total Supply Voltage(Min)(+5V is 5, +/-5V is 10): 7; DatasheetVersion: SLOS193B; PackageVersion: 4040083/F, 03/2003; PackageReference: J14; PackageDescription: 14-Pin Ceramic, Glass In-Line, Row Spacing 7.62 mm, Pitch 2.54 mm; Vio (25C)(Max)(mV): 7; Mounting Technology: Through Hole; ComponentLink1Description: Manufacturer URL; ComponentLink1URL: http://www.ti.com/; ComponentLink2Description: Datasheet; ComponentLink2URL: http://www.ti.com/lit/ds/symlink/tle2064m.pdf; ComponentLink3Description: Package Specification; ComponentLink3URL: http://www.ti.com/litv/pdf/mcer002d
footprint TI-J14 (DIP, 14-Leads, Body 19.94x6.92mm, Row Spacing 7.62 mm, Pitch 2.54mm)
pins on every part: 4 VCC+ (power), 11 VCC- (power)
part A pins: 1 OUT1 (out), 2 IN1- (in), 3 IN1+ (in)
part B pins: 5 IN2+ (in), 6 IN2- (in), 7 OUT2 (out)
part C pins: 8 OUT3 (out), 9 IN3- (in), 10 IN3+ (in)
part D pins: 12 IN4+ (in), 13 IN4- (in), 14 OUT4 (out)

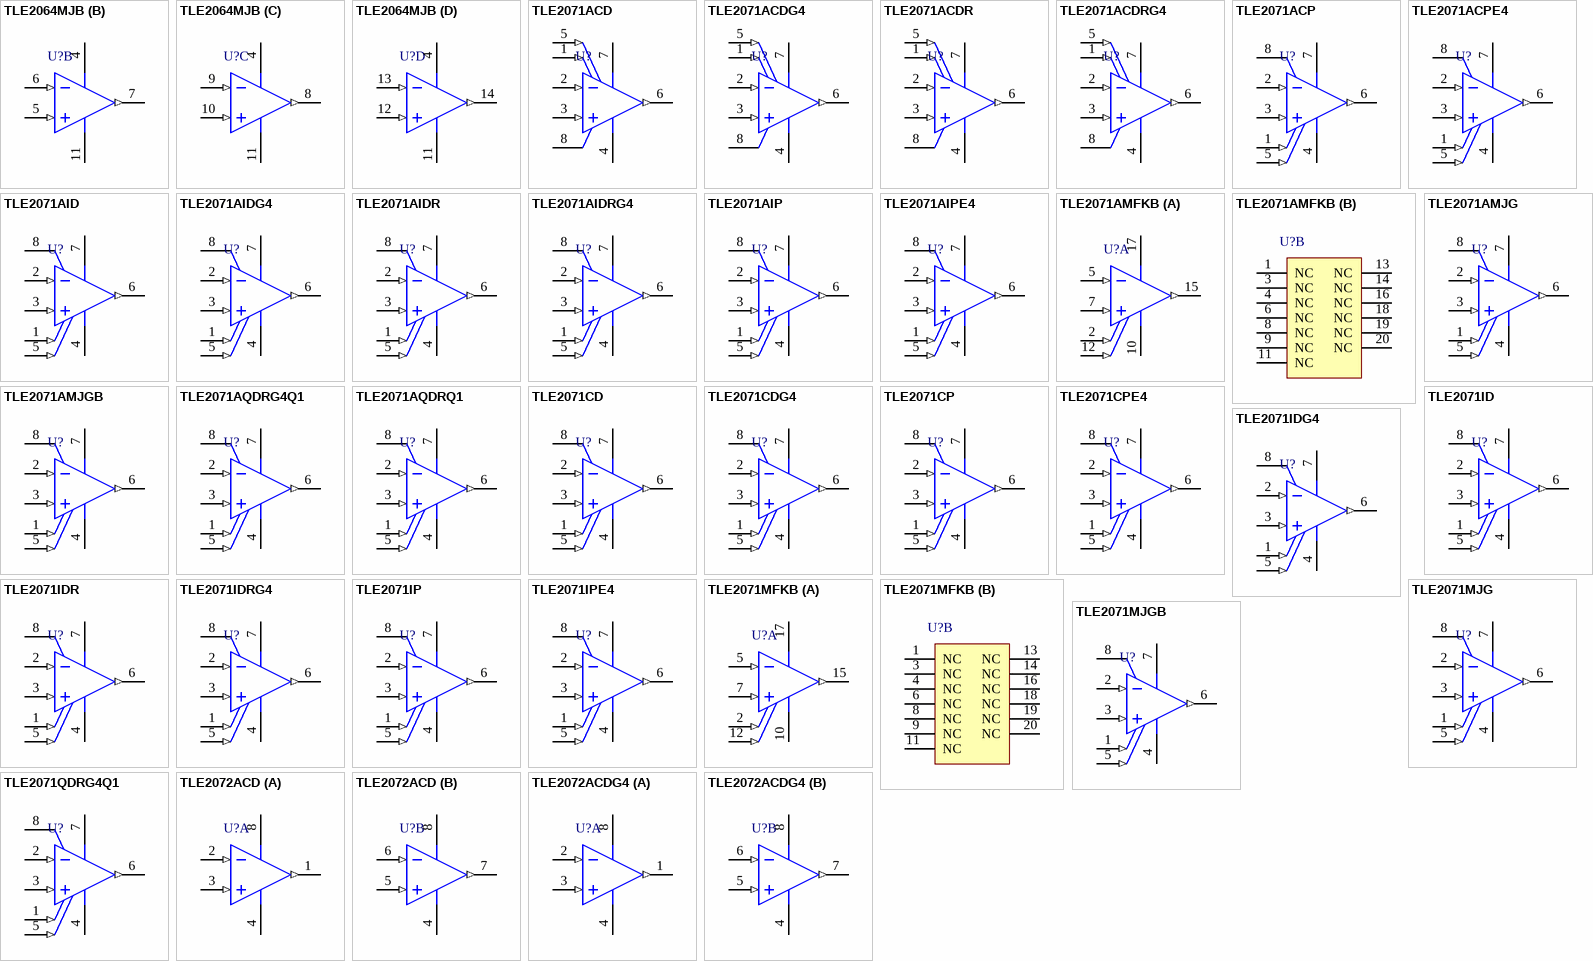
[diagram p86: symbols TLE2064MJB to TLE2072ACDG4]

## TLE2064MJB
designator U?
JFET-Input Low Power High Drive Quad Operational Amplifier, 7 to 36 V, -55 to 125 degC, 14-pin DIP (J14); Manufacturer: Texas Instruments; PartNumber: TLE2064MJB; CMRR(Min)(dB): 65; GBW(Typ)(MHz): 1.8; IIB(Max)(pA): 30000; Iq per channel(Max)(mA): 0.325; Number of Channels: 4; Offset Drift(Typ)(uV/C): 6; Packing: TUBE; Rating: Military; Slew Rate(Typ)(V/us): 3.4; Sub Family: High Supply Voltage Amplifier (>=30V), Low Power Amp (<=500uA), Precision Amplifier; Total Supply Voltage(Max)(+5V is 5, +/-5V is 10): 36; Total Supply Voltage(Min)(+5V is 5, +/-5V is 10): 7; DatasheetVersion: SLOS193B; PackageVersion: 4040083/F, 03/2003; PackageReference: J14; PackageDescription: 14-Pin Ceramic, Glass In-Line, Row Spacing 7.62 mm, Pitch 2.54 mm; Vio (25C)(Max)(mV): 7; Mounting Technology: Through Hole; ComponentLink1Description: Manufacturer URL; ComponentLink1URL: http://www.ti.com/; ComponentLink2Description: Datasheet; ComponentLink2URL: http://www.ti.com/lit/ds/symlink/tle2064m.pdf; ComponentLink3Description: Package Specification; ComponentLink3URL: http://www.ti.com/litv/pdf/mcer002d
footprint TI-J14 (DIP, 14-Leads, Body 19.94x6.92mm, Row Spacing 7.62 mm, Pitch 2.54mm)
pins on every part: 4 VCC+ (power), 11 VCC- (power)
part A pins: 1 OUT1 (out), 2 IN1- (in), 3 IN1+ (in)
part B pins: 5 IN2+ (in), 6 IN2- (in), 7 OUT2 (out)
part C pins: 8 OUT3 (out), 9 IN3- (in), 10 IN3+ (in)
part D pins: 12 IN4+ (in), 13 IN4- (in), 14 OUT4 (out)

## TLE2071ACD
designator U?
Excalibur Low-Noise High-Speed JFET-Input Operational Amplifier, 4.5 to 38 V, 0 to 70 degC, 8-pin SOIC (D8), Green (RoHS & no Sb/Br); Manufacturer: Texas Instruments; PartNumber: TLE2071ACD; CMRR(Min)(dB): 70; GBW(Typ)(MHz): 9.4; IIB(Max)(pA): 175; Iq per channel(Max)(mA): 2.2; Number of Channels: 1; Offset Drift(Typ)(uV/C): 3.2; Packing: TUBE; Rating: Catalog; Slew Rate(Typ)(V/us): 35; Sub Family: High Output Current Amplifier (>=50mA), High Supply Voltage Amplifier (>=30V), Precision Amplifier; Total Supply Voltage(Max)(+5V is 5, +/-5V is 10): 38; Total Supply Voltage(Min)(+5V is 5, +/-5V is 10): 4.5; Vio (25C)(Max)(mV): 2; DatasheetVersion: SLOS181C; PackageVersion: 4040047-3/M, 06/2011; PackageReference: D8; PackageDescription: 8-Pin Plastic Small Outline, Body 4.9 x 3.9 mm, Pitch 1.27 mm; Supplier 1: Digi-Key; Supplier Part Number 1: 296-10414-5-ND; Supplier 2: Farnell; Supplier Part Number 2: 1459876; Supplier 3: Mouser; Supplier Part Number 3: 595-TLE2071ACD; Eco-Plan: Green (RoHS & no Sb/Br); Mounting Technology: Surface Mount; Code_JEDEC: MS-012; ComponentLink1Description: Manufacturer URL; ComponentLink1URL: http://www.ti.com/; ComponentLink2Description: Datasheet; ComponentLink2URL: http://www.ti.com/lit/ds/symlink/tle2071a.pdf; ComponentLink3Description: Package Specification; ComponentLink3URL: http://www.ti.com/litv/pdf/msoi002j
footprint TI-D8_N (SOIC, 8-Leads, Body 4.9x3.9mm, Pitch 1.27mm, IPC Medium Density)
footprint TI-D8_L (SOIC, 8-Leads, Body 4.9x3.9mm, Pitch 1.27mm, IPC High Density)
footprint TI-D8_M (SOIC, 8-Leads, Body 4.9x3.9mm, Pitch 1.27mm, IPC Low Density)
pins: 1 OFFSET N1 (in), 2 IN- (in), 3 IN+ (in), 4 VCC- (power), 5 OFFSET N2 (in), 6 OUT (out), 7 VCC+ (power), 8 NC

## TLE2071ACDG4
designator U?
Excalibur Low-Noise High-Speed JFET-Input Operational Amplifier, 4.5 to 38 V, 0 to 70 degC, 8-pin SOIC (D8), Green (RoHS & no Sb/Br); Manufacturer: Texas Instruments; PartNumber: TLE2071ACDG4; CMRR(Min)(dB): 70; GBW(Typ)(MHz): 9.4; IIB(Max)(pA): 175; Iq per channel(Max)(mA): 2.2; Number of Channels: 1; Offset Drift(Typ)(uV/C): 3.2; Packing: TUBE; Rating: Catalog; Slew Rate(Typ)(V/us): 35; Sub Family: High Output Current Amplifier (>=50mA), High Supply Voltage Amplifier (>=30V), Precision Amplifier; Total Supply Voltage(Max)(+5V is 5, +/-5V is 10): 38; Total Supply Voltage(Min)(+5V is 5, +/-5V is 10): 4.5; Vio (25C)(Max)(mV): 2; DatasheetVersion: SLOS181C; PackageVersion: 4040047-3/M, 06/2011; PackageReference: D8; PackageDescription: 8-Pin Plastic Small Outline, Body 4.9 x 3.9 mm, Pitch 1.27 mm; Supplier 1: Digi-Key; Supplier Part Number 1: TLE2071ACDG4-ND; Supplier 2: Mouser; Supplier Part Number 2: 595-TLE2071ACDG4; Eco-Plan: Green (RoHS & no Sb/Br); Mounting Technology: Surface Mount; Code_JEDEC: MS-012; ComponentLink1Description: Manufacturer URL; ComponentLink1URL: http://www.ti.com/; ComponentLink2Description: Datasheet; ComponentLink2URL: http://www.ti.com/lit/ds/symlink/tle2071a.pdf; ComponentLink3Description: Package Specification; ComponentLink3URL: http://www.ti.com/litv/pdf/msoi002j
footprint TI-D8_N (SOIC, 8-Leads, Body 4.9x3.9mm, Pitch 1.27mm, IPC Medium Density)
footprint TI-D8_L (SOIC, 8-Leads, Body 4.9x3.9mm, Pitch 1.27mm, IPC High Density)
footprint TI-D8_M (SOIC, 8-Leads, Body 4.9x3.9mm, Pitch 1.27mm, IPC Low Density)
pins: 1 OFFSET N1 (in), 2 IN- (in), 3 IN+ (in), 4 VCC- (power), 5 OFFSET N2 (in), 6 OUT (out), 7 VCC+ (power), 8 NC

## TLE2071ACDR
designator U?
Excalibur Low-Noise High-Speed JFET-Input Operational Amplifier, 4.5 to 38 V, 0 to 70 degC, 8-pin SOIC (D8), Green (RoHS & no Sb/Br); Manufacturer: Texas Instruments; PartNumber: TLE2071ACDR; CMRR(Min)(dB): 70; GBW(Typ)(MHz): 9.4; IIB(Max)(pA): 175; Iq per channel(Max)(mA): 2.2; Number of Channels: 1; Offset Drift(Typ)(uV/C): 3.2; Packing: LARGE T&R; Rating: Catalog; Slew Rate(Typ)(V/us): 35; Sub Family: High Output Current Amplifier (>=50mA), High Supply Voltage Amplifier (>=30V), Precision Amplifier; Total Supply Voltage(Max)(+5V is 5, +/-5V is 10): 38; Total Supply Voltage(Min)(+5V is 5, +/-5V is 10): 4.5; Vio (25C)(Max)(mV): 2; DatasheetVersion: SLOS181C; PackageVersion: 4040047-3/M, 06/2011; PackageReference: D8; PackageDescription: 8-Pin Plastic Small Outline, Body 4.9 x 3.9 mm, Pitch 1.27 mm; Supplier 1: Digi-Key; Supplier Part Number 1: TLE2071ACDR-ND; Supplier 2: Mouser; Supplier Part Number 2: 595-TLE2071ACDR; Eco-Plan: Green (RoHS & no Sb/Br); Mounting Technology: Surface Mount; Code_JEDEC: MS-012; ComponentLink1Description: Manufacturer URL; ComponentLink1URL: http://www.ti.com/; ComponentLink2Description: Datasheet; ComponentLink2URL: http://www.ti.com/lit/ds/symlink/tle2071a.pdf; ComponentLink3Description: Package Specification; ComponentLink3URL: http://www.ti.com/litv/pdf/msoi002j
footprint TI-D8_N (SOIC, 8-Leads, Body 4.9x3.9mm, Pitch 1.27mm, IPC Medium Density)
footprint TI-D8_L (SOIC, 8-Leads, Body 4.9x3.9mm, Pitch 1.27mm, IPC High Density)
footprint TI-D8_M (SOIC, 8-Leads, Body 4.9x3.9mm, Pitch 1.27mm, IPC Low Density)
pins: 1 OFFSET N1 (in), 2 IN- (in), 3 IN+ (in), 4 VCC- (power), 5 OFFSET N2 (in), 6 OUT (out), 7 VCC+ (power), 8 NC

## TLE2071ACDRG4
designator U?
Excalibur Low-Noise High-Speed JFET-Input Operational Amplifier, 4.5 to 38 V, 0 to 70 degC, 8-pin SOIC (D8), Green (RoHS & no Sb/Br); Manufacturer: Texas Instruments; PartNumber: TLE2071ACDRG4; CMRR(Min)(dB): 70; GBW(Typ)(MHz): 9.4; IIB(Max)(pA): 175; Iq per channel(Max)(mA): 2.2; Number of Channels: 1; Offset Drift(Typ)(uV/C): 3.2; Packing: LARGE T&R; Rating: Catalog; Slew Rate(Typ)(V/us): 35; Sub Family: High Output Current Amplifier (>=50mA), High Supply Voltage Amplifier (>=30V), Precision Amplifier; Total Supply Voltage(Max)(+5V is 5, +/-5V is 10): 38; Total Supply Voltage(Min)(+5V is 5, +/-5V is 10): 4.5; Vio (25C)(Max)(mV): 2; DatasheetVersion: SLOS181C; PackageVersion: 4040047-3/M, 06/2011; PackageReference: D8; PackageDescription: 8-Pin Plastic Small Outline, Body 4.9 x 3.9 mm, Pitch 1.27 mm; Supplier 1: Digi-Key; Supplier Part Number 1: TLE2071ACDRG4-ND; Supplier 2: Mouser; Supplier Part Number 2: 595-TLE2071ACDRG4; Eco-Plan: Green (RoHS & no Sb/Br); Mounting Technology: Surface Mount; Code_JEDEC: MS-012; ComponentLink1Description: Manufacturer URL; ComponentLink1URL: http://www.ti.com/; ComponentLink2Description: Datasheet; ComponentLink2URL: http://www.ti.com/lit/ds/symlink/tle2071a.pdf; ComponentLink3Description: Package Specification; ComponentLink3URL: http://www.ti.com/litv/pdf/msoi002j
footprint TI-D8_N (SOIC, 8-Leads, Body 4.9x3.9mm, Pitch 1.27mm, IPC Medium Density)
footprint TI-D8_L (SOIC, 8-Leads, Body 4.9x3.9mm, Pitch 1.27mm, IPC High Density)
footprint TI-D8_M (SOIC, 8-Leads, Body 4.9x3.9mm, Pitch 1.27mm, IPC Low Density)
pins: 1 OFFSET N1 (in), 2 IN- (in), 3 IN+ (in), 4 VCC- (power), 5 OFFSET N2 (in), 6 OUT (out), 7 VCC+ (power), 8 NC

## TLE2071ACP
designator U?
Excalibur Low-Noise High-Speed JFET-Input Operational Amplifier, 4.5 to 38 V, 0 to 70 degC, 8-pin DIP (P8), Pb-Free (RoHS); Manufacturer: Texas Instruments; PartNumber: TLE2071ACP; CMRR(Min)(dB): 70; GBW(Typ)(MHz): 9.4; IIB(Max)(pA): 175; Iq per channel(Max)(mA): 2.2; Number of Channels: 1; Offset Drift(Typ)(uV/C): 3.2; Packing: TUBE; Rating: Catalog; Slew Rate(Typ)(V/us): 35; Sub Family: High Output Current Amplifier (>=50mA), High Supply Voltage Amplifier (>=30V), Precision Amplifier; Total Supply Voltage(Max)(+5V is 5, +/-5V is 10): 38; Total Supply Voltage(Min)(+5V is 5, +/-5V is 10): 4.5; Vio (25C)(Max)(mV): 2; DatasheetVersion: SLOS181C; PackageVersion: 4040082/E, 04/2010; PackageReference: P8; PackageDescription: 8-Pin Plastic In-Line, Body 9.59 x 6.35 mm, Pitch 2.54 mm; Supplier 1: Digi-Key; Supplier Part Number 1: 296-10415-5-ND; Supplier 2: Newark; Supplier Part Number 2: 76C7640; Supplier 3: Mouser; Supplier Part Number 3: 595-TLE2071ACP; Eco-Plan: Pb-Free (RoHS); Mounting Technology: Through Hole; Code_JEDEC: MS-001; ComponentLink1Description: Manufacturer URL; ComponentLink1URL: http://www.ti.com/; ComponentLink2Description: Datasheet; ComponentLink2URL: http://www.ti.com/lit/ds/symlink/tle2071a.pdf; ComponentLink3Description: Package Specification; ComponentLink3URL: http://www.ti.com/litv/pdf/mpdi001b
footprint TI-P8 (DIP, 8-Leads, Body 9.59x6.35mm, Pitch 2.54mm)
pins: 1 OFFSET N1 (in), 2 IN- (in), 3 IN+ (in), 4 VCC- (power), 5 OFFSET N2 (in), 6 OUT (out), 7 VCC+ (power), 8 NC

## TLE2071ACPE4
designator U?
Excalibur Low-Noise High-Speed JFET-Input Operational Amplifier, 4.5 to 38 V, 0 to 70 degC, 8-pin DIP (P8), Pb-Free (RoHS); Manufacturer: Texas Instruments; PartNumber: TLE2071ACPE4; CMRR(Min)(dB): 70; GBW(Typ)(MHz): 9.4; IIB(Max)(pA): 175; Iq per channel(Max)(mA): 2.2; Number of Channels: 1; Offset Drift(Typ)(uV/C): 3.2; Packing: TUBE; Rating: Catalog; Slew Rate(Typ)(V/us): 35; Sub Family: High Output Current Amplifier (>=50mA), High Supply Voltage Amplifier (>=30V), Precision Amplifier; Total Supply Voltage(Max)(+5V is 5, +/-5V is 10): 38; Total Supply Voltage(Min)(+5V is 5, +/-5V is 10): 4.5; Vio (25C)(Max)(mV): 2; DatasheetVersion: SLOS181C; PackageVersion: 4040082/E, 04/2010; PackageReference: P8; PackageDescription: 8-Pin Plastic In-Line, Body 9.59 x 6.35 mm, Pitch 2.54 mm; Supplier 1: Digi-Key; Supplier Part Number 1: TLE2071ACPE4-ND; Supplier 2: Newark; Supplier Part Number 2: 24K5391; Supplier 3: Mouser; Supplier Part Number 3: 595-TLE2071ACPE4; Eco-Plan: Pb-Free (RoHS); Mounting Technology: Through Hole; Code_JEDEC: MS-001; ComponentLink1Description: Manufacturer URL; ComponentLink1URL: http://www.ti.com/; ComponentLink2Description: Datasheet; ComponentLink2URL: http://www.ti.com/lit/ds/symlink/tle2071a.pdf; ComponentLink3Description: Package Specification; ComponentLink3URL: http://www.ti.com/litv/pdf/mpdi001b
footprint TI-P8 (DIP, 8-Leads, Body 9.59x6.35mm, Pitch 2.54mm)
pins: 1 OFFSET N1 (in), 2 IN- (in), 3 IN+ (in), 4 VCC- (power), 5 OFFSET N2 (in), 6 OUT (out), 7 VCC+ (power), 8 NC

## TLE2071AID
designator U?
Excalibur Low-Noise High-Speed JFET-Input Operational Amplifier, 4.5 to 38 V, -40 to 85 degC, 8-pin SOIC (D8), Green (RoHS & no Sb/Br); Manufacturer: Texas Instruments; PartNumber: TLE2071AID; CMRR(Min)(dB): 70; GBW(Typ)(MHz): 9.4; IIB(Max)(pA): 175; Iq per channel(Max)(mA): 2.2; Number of Channels: 1; Offset Drift(Typ)(uV/C): 3.2; Packing: TUBE; Rating: Catalog; Slew Rate(Typ)(V/us): 35; Sub Family: High Output Current Amplifier (>=50mA), High Supply Voltage Amplifier (>=30V), Precision Amplifier; Total Supply Voltage(Max)(+5V is 5, +/-5V is 10): 38; Total Supply Voltage(Min)(+5V is 5, +/-5V is 10): 4.5; Vio (25C)(Max)(mV): 2; DatasheetVersion: SLOS181C; PackageVersion: 4040047-3/M, 06/2011; PackageReference: D8; PackageDescription: 8-Pin Plastic Small Outline, Body 4.9 x 3.9 mm, Pitch 1.27 mm; Supplier 1: Digi-Key; Supplier Part Number 1: 296-10416-5-ND; Supplier 2: Farnell; Supplier Part Number 2: 1459877; Supplier 3: Newark; Supplier Part Number 3: 76C7641; Supplier 4: Mouser; Supplier Part Number 4: 595-TLE2071AID; Eco-Plan: Green (RoHS & no Sb/Br); Mounting Technology: Surface Mount; Code_JEDEC: MS-012; ComponentLink1Description: Manufacturer URL; ComponentLink1URL: http://www.ti.com/; ComponentLink2Description: Datasheet; ComponentLink2URL: http://www.ti.com/lit/ds/symlink/tle2071a.pdf; ComponentLink3Description: Package Specification; ComponentLink3URL: http://www.ti.com/litv/pdf/msoi002j
footprint TI-D8_N (SOIC, 8-Leads, Body 4.9x3.9mm, Pitch 1.27mm, IPC Medium Density)
footprint TI-D8_L (SOIC, 8-Leads, Body 4.9x3.9mm, Pitch 1.27mm, IPC High Density)
footprint TI-D8_M (SOIC, 8-Leads, Body 4.9x3.9mm, Pitch 1.27mm, IPC Low Density)
pins: 1 OFFSET N1 (in), 2 IN- (in), 3 IN+ (in), 4 VCC- (power), 5 OFFSET N2 (in), 6 OUT (out), 7 VCC+ (power), 8 NC

## TLE2071AIDG4
designator U?
Excalibur Low-Noise High-Speed JFET-Input Operational Amplifier, 4.5 to 38 V, -40 to 85 degC, 8-pin SOIC (D8), Green (RoHS & no Sb/Br); Manufacturer: Texas Instruments; PartNumber: TLE2071AIDG4; CMRR(Min)(dB): 70; GBW(Typ)(MHz): 9.4; IIB(Max)(pA): 175; Iq per channel(Max)(mA): 2.2; Number of Channels: 1; Offset Drift(Typ)(uV/C): 3.2; Packing: TUBE; Rating: Catalog; Slew Rate(Typ)(V/us): 35; Sub Family: High Output Current Amplifier (>=50mA), High Supply Voltage Amplifier (>=30V), Precision Amplifier; Total Supply Voltage(Max)(+5V is 5, +/-5V is 10): 38; Total Supply Voltage(Min)(+5V is 5, +/-5V is 10): 4.5; Vio (25C)(Max)(mV): 2; DatasheetVersion: SLOS181C; PackageVersion: 4040047-3/M, 06/2011; PackageReference: D8; PackageDescription: 8-Pin Plastic Small Outline, Body 4.9 x 3.9 mm, Pitch 1.27 mm; Supplier 1: Digi-Key; Supplier Part Number 1: TLE2071AIDG4-ND; Supplier 2: Newark; Supplier Part Number 2: 14M2305; Supplier 3: Mouser; Supplier Part Number 3: 595-TLE2071AIDG4; Eco-Plan: Green (RoHS & no Sb/Br); Mounting Technology: Surface Mount; Code_JEDEC: MS-012; ComponentLink1Description: Manufacturer URL; ComponentLink1URL: http://www.ti.com/; ComponentLink2Description: Datasheet; ComponentLink2URL: http://www.ti.com/lit/ds/symlink/tle2071a.pdf; ComponentLink3Description: Package Specification; ComponentLink3URL: http://www.ti.com/litv/pdf/msoi002j
footprint TI-D8_N (SOIC, 8-Leads, Body 4.9x3.9mm, Pitch 1.27mm, IPC Medium Density)
footprint TI-D8_L (SOIC, 8-Leads, Body 4.9x3.9mm, Pitch 1.27mm, IPC High Density)
footprint TI-D8_M (SOIC, 8-Leads, Body 4.9x3.9mm, Pitch 1.27mm, IPC Low Density)
pins: 1 OFFSET N1 (in), 2 IN- (in), 3 IN+ (in), 4 VCC- (power), 5 OFFSET N2 (in), 6 OUT (out), 7 VCC+ (power), 8 NC